# EAGLE library part MPU-9250 (library ENGI301 Project 2a)
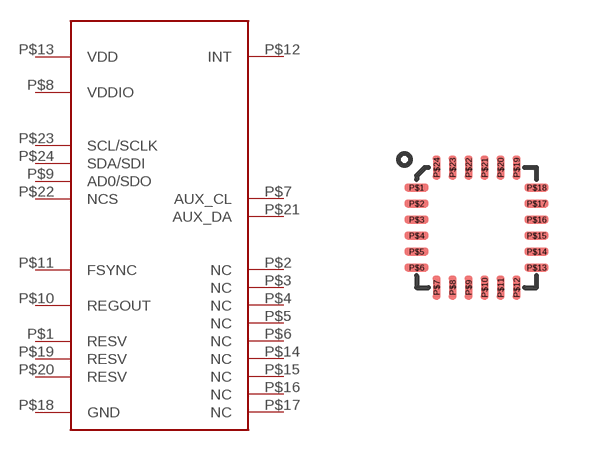
[diagram p0: symbol with the pads of QFN3; footprint QFN3]

Designator prefix U

## MPU-9250  [QFN3]
P$1  RESV
P$2  NC
P$3  NC
P$4  NC
P$5  NC
P$6  NC
P$7  AUX_CL
P$8  VDDIO
P$9  AD0/SDO
P$10  REGOUT
P$11  FSYNC
P$12  INT
P$13  VDD
P$14  NC
P$15  NC
P$16  NC
P$17  NC
P$18  GND
P$19  RESV
P$20  RESV
P$21  AUX_DA
P$22  NCS
P$23  SCL/SCLK
P$24  SDA/SDI

## Footprint QFN3 (pad centres in mm)
smd 0.6 x 0.2: P$1 -1.5,1; P$2 -1.5,0.6; P$3 -1.5,0.2; P$4 -1.5,-0.2; P$5 -1.5,-0.6; P$6 -1.5,-1; P$13 1.5,-1; P$14 1.5,-0.6; P$15 1.5,-0.2; P$16 1.5,0.2; P$17 1.5,0.6; P$18 1.5,1
smd 0.2 x 0.6: P$7 -1,-1.5; P$8 -0.6,-1.5; P$9 -0.2,-1.5; P$10 0.2,-1.5; P$11 0.6,-1.5; P$12 1,-1.5; P$19 1,1.5; P$20 0.6,1.5; P$21 0.2,1.5; P$22 -0.2,1.5; P$23 -0.6,1.5; P$24 -1,1.5